# Altium schematic symbol library SCH - CONNECTOR - JST SM18B-ZPDSS-TF.SchLib: 1 symbol
Pins are listed as number, name and electrical type; pins without a type are passive.

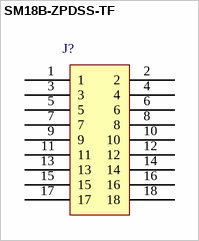
[diagram p0: symbol SM18B-ZPDSS-TF]

## SM18B-ZPDSS-TF
designator J?
pins: 1, 2, 3, 4, 5, 6, 7, 8, 9, 10, 11, 12, 13, 14, 15, 16, 17, 18